# Altium footprint library RES_2.2k_0.5W_0805.PcbLib: 1 footprints
Each footprint in its own frame and in the unit in brackets; x right, y up, seen from the top. Pads: shape width x height; smd on the part's side, far side on the other; paste and mask are expansions set on the pad; w line width, h text height; cw(c..) or ccw(c..) is an arc to the next point about the centre after c.
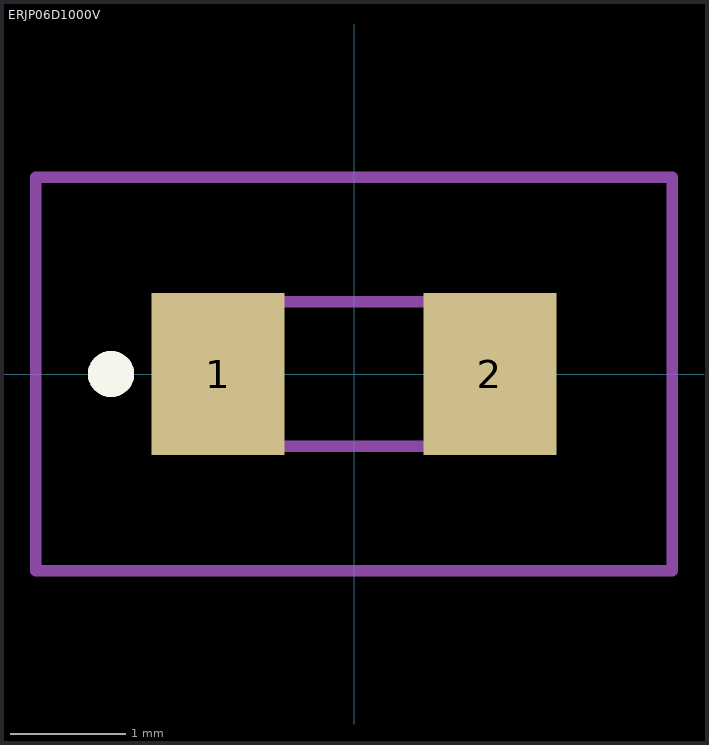
[diagram p0: the footprint, top view; thin cyan lines are the x and y axes]

## ERJP06D1000V [mm]
pads (2):
  rect 1.15x1.4 smd: 1(-1.175,0) 2(1.175,0)
Top Overlay:
  lines w0.2: -2.1,-0.1 cw(c-2.1,0) -2.1,0.1 cw(c-2.1,0) -2.1,-0.1
Mechanical 15:
  lines w0.1: -1,-0.625 1,-0.625 1,0.625 -1,0.625 -1,-0.625
Mechanical 20:
  lines w0.1: -2.75,-1.7 2.75,-1.7 2.75,1.7 -2.75,1.7 -2.75,-1.7
3D body "ERJ-P06J202V.stp": height 0.6, standoff 0, extent -1,-0.625 1,0.625